# Altium footprint library MotorPID.PcbLib: 8 footprints
Each footprint in its own frame and in the unit in brackets; x right, y up, seen from the top. Pads: shape width x height; smd on the part's side, far side on the other; paste and mask are expansions set on the pad; w line width, h text height; cw(c..) or ccw(c..) is an arc to the next point about the centre after c.
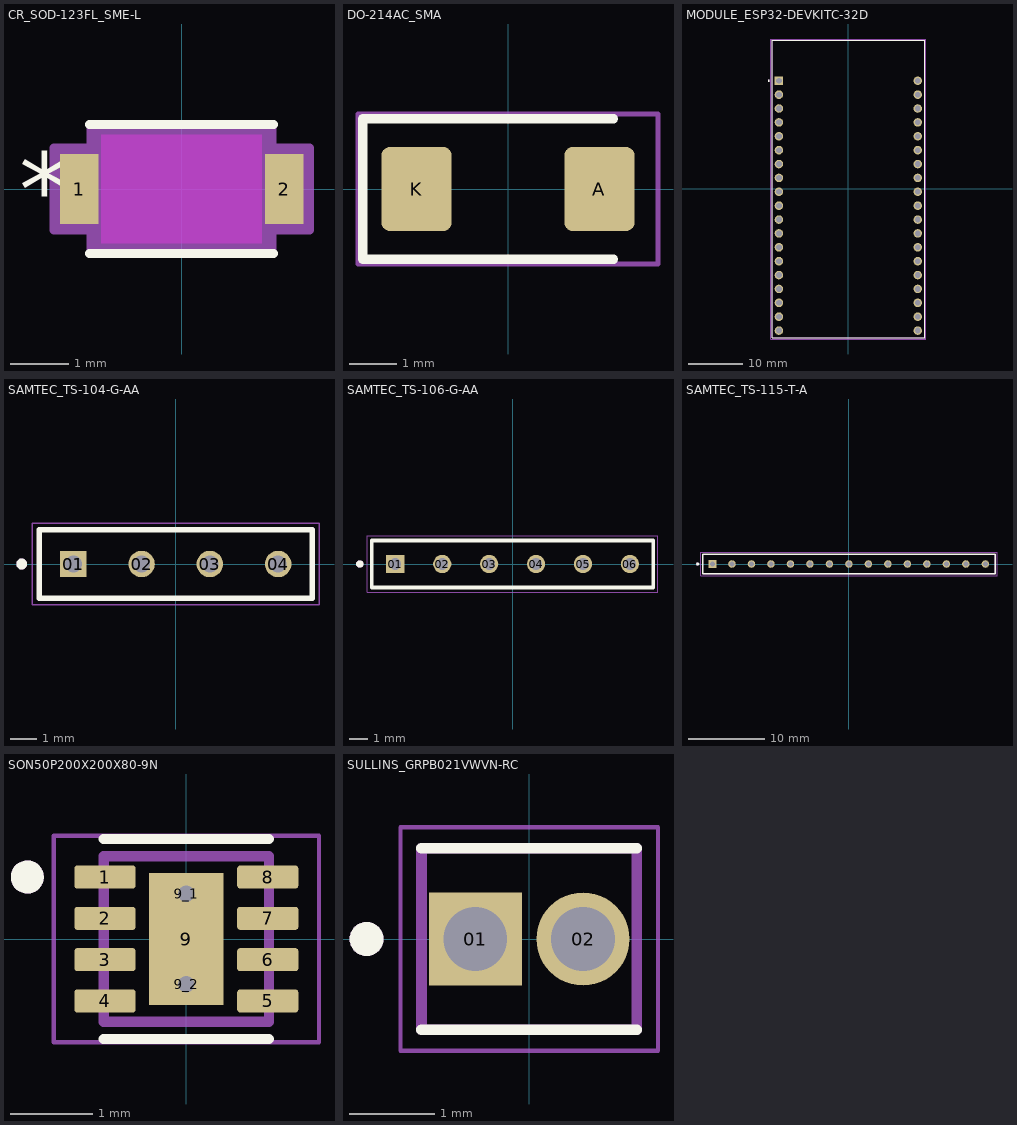
[diagram p0: the footprints below, top view; thin cyan lines are the x and y axes]

## CR_SOD-123FL_SME-L [mil]
pads (2):
  rect 26x47 smd paste+0 mask+0: 1(-69,0) 2(69,0)
Top Overlay:
  lines w6: -62,-43.5 62,-43.5 ; -62,43.5 62,43.5
  text "*" at -109.5,-25 h50
Keep-Out Layer:
  region: -54,-36.5 -54,36.5 54,36.5 54,-36.5
Mechanical 13:
  lines w1: -57,-19.25 -37.75,-38.5 ; -57,19.25 -37.75,38.5 ; -76,-23.5 -76,23.5 -57,23.5 -57,-23.5 -76,-23.5 ; -57,-38.5 57,-38.5 57,38.5 -57,38.5 -57,-38.5 ; 57,-23.5 57,23.5 76,23.5 76,-23.5 57,-23.5
  text "*" at -59.5,-25 h50
Mechanical 15:
  region: -61,-27.5 -86,-27.5 -86,27.5 -61,27.5 -61,42.5 61,42.5 61,27.5 86,27.5 86,-27.5 61,-27.5 61,-42.5 -61,-42.5
  lines w6: -86,-27.5 -86,27.5 -61,27.5 -61,42.5 61,42.5 61,27.5 86,27.5 86,-27.5 61,-27.5 61,-42.5 -61,-42.5 -61,-27.5 -86,-27.5
3D body "CR_SOD-123FL_SME.step": height 55.12, standoff 0, extent -75.98,-38.5 75.98,38.5

## DO-214AC_SMA [mm]
pads (2):
  rrect25% 1.5x1.8 smd: A(1.95,0) K(-1.95,0)
Top Overlay:
  lines w0.2: 2.25,-1.5 -3.1,-1.5 -3.1,1.5 2.25,1.5
Mechanical 15:
  lines w0.1: -3.2,-1.6 3.2,-1.6 3.2,1.6 -3.2,1.6 -3.2,-1.6
3D body "M4.step": height 2.2, standoff 0, extent -2.5,-1.35 2.5,1.35

## MODULE_ESP32-DEVKITC-32D [mm]
pads (38):
  rect 1.56x1.56 / inner round 1.56 / far side rect 1.56x1.56 hole 1.04: J2-1(-12.7,19.76)
  round 1.56 hole 1.04: J2-2(-12.7,17.22) J2-3(-12.7,14.68) J2-4(-12.7,12.14) J2-5(-12.7,9.6) J2-6(-12.7,7.06) J2-7(-12.7,4.52) J2-8(-12.7,1.98) J2-9(-12.7,-0.56) J2-10(-12.7,-3.1) J2-11(-12.7,-5.64) J2-12(-12.7,-8.18) J2-13(-12.7,-10.72) J2-14(-12.7,-13.26) J2-15(-12.7,-15.8) J2-16(-12.7,-18.34) J2-17(-12.7,-20.88) J2-18(-12.7,-23.42) J2-19(-12.7,-25.96) J3-1(12.7,19.76) J3-2(12.7,17.22) J3-3(12.7,14.68) J3-4(12.7,12.14) J3-5(12.7,9.6) J3-6(12.7,7.06) J3-7(12.7,4.52) J3-8(12.7,1.98) J3-9(12.7,-0.56) J3-10(12.7,-3.1) J3-11(12.7,-5.64) J3-12(12.7,-8.18) J3-13(12.7,-10.72) J3-14(12.7,-13.26) J3-15(12.7,-15.8) J3-16(12.7,-18.34) J3-17(12.7,-20.88) J3-18(12.7,-23.42) J3-19(12.7,-25.96)
Top Overlay:
  circle w0.2: c-14.6,19.76 r0.1
  lines w0.127: -13.95,-27.25 13.95,-27.25 13.95,27.15 -13.95,27.15 -13.95,-27.25
Mechanical 13:
  circle w0.2: c-14.6,19.76 r0.1
  lines w0.127: -13.95,-27.25 -13.95,27.15 13.95,27.15 13.95,-27.25 -13.95,-27.25
Mechanical 15:
  lines w0.05: -14.2,-27.5 -14.2,27.4 14.2,27.4 14.2,-27.5 -14.2,-27.5
3D body "step_temp.STEP": height 6.69, standoff -6, extent -13.97,-27.9 13.97,27.2

## SAMTEC_TS-104-G-AA [mm]
pads (4):
  rect 0.985x0.985 hole 0.635: 01(-3.81,0)
  round 0.985 hole 0.635: 02(-1.27,0) 03(1.27,0) 04(3.81,0)
Top Overlay:
  circle w0.2: c-5.73,0 r0.1
  lines w0.2: -5.08,-1.27 5.08,-1.27 5.08,1.27 -5.08,1.27 -5.08,-1.27
Mechanical 13:
  circle w0.2: c-5.73,0 r0.1
  lines w0.1: -5.08,-1.27 -5.08,1.27 ; -5.08,-1.27 5.08,-1.27 ; -5.08,-1.27 -5.08,1.27 ; -5.08,1.27 5.08,1.27 ; -5.08,1.27 5.08,1.27 ; 5.08,-1.27 5.08,1.27 ; 5.08,-1.27 5.08,1.27
Mechanical 15:
  lines w0.05: -5.33,-1.52 5.33,-1.52 5.33,1.52 -5.33,1.52 -5.33,-1.52

## SAMTEC_TS-106-G-AA [mm]
pads (6):
  rect 0.985x0.985 / inner round 0.985 / far side rect 0.985x0.985 hole 0.635: 01(-6.35,0)
  round 0.985 hole 0.635: 02(-3.81,0) 03(-1.27,0) 04(1.27,0) 05(3.81,0) 06(6.35,0)
Top Overlay:
  circle w0.2: c-8.27,0 r0.1
  lines w0.2: -7.62,-1.27 7.62,-1.27 7.62,1.27 -7.62,1.27 -7.62,-1.27
Mechanical 13:
  circle w0.2: c-8.27,0 r0.1
  lines w0.1: -7.62,-1.27 -7.62,1.27 ; -7.62,-1.27 7.62,-1.27 ; -7.62,-1.27 -7.62,1.27 ; -7.62,1.27 7.62,1.27 ; -7.62,1.27 7.62,1.27 ; 7.62,-1.27 7.62,1.27 ; 7.62,-1.27 7.62,1.27
Mechanical 15:
  lines w0.05: -7.87,-1.52 7.87,-1.52 7.87,1.52 -7.87,1.52 -7.87,-1.52

## SAMTEC_TS-115-T-A [mm]
pads (15):
  rect 0.985x0.985 / inner round 0.985 / far side rect 0.985x0.985 hole 0.635: 01(-17.78,0)
  round 0.985 hole 0.635: 02(-15.24,0) 03(-12.7,0) 04(-10.16,0) 05(-7.62,0) 06(-5.08,0) 07(-2.54,0) 08(0,0) 09(2.54,0) 10(5.08,0) 11(7.62,0) 12(10.16,0) 13(12.7,0) 14(15.24,0) 15(17.78,0)
Top Overlay:
  circle w0.2: c-19.7,0 r0.1
  lines w0.2: -19.05,-1.27 -19.05,1.27 19.05,1.27 19.05,-1.27 -19.05,-1.27
Mechanical 13:
  circle w0.2: c-19.7,0 r0.1
  lines w0.1: -19.05,-1.27 -19.05,1.27 ; -19.05,-1.27 19.05,-1.27 ; -19.05,-1.27 -19.05,1.27 ; -19.05,1.27 19.05,1.27 ; -19.05,1.27 19.05,1.27 ; 19.05,-1.27 19.05,1.27 ; 19.05,-1.27 19.05,1.27
Mechanical 15:
  lines w0.05: -19.3,-1.52 -19.3,1.52 19.3,1.52 19.3,-1.52 -19.3,-1.52

## SON50P200X200X80-9N [mm]
pads (11):
  rrect25% 0.74x0.28 smd: 1(-0.985,0.75) 2(-0.985,0.25) 3(-0.985,-0.25) 4(-0.985,-0.75) 5(0.985,-0.75) 6(0.985,-0.25) 7(0.985,0.25) 8(0.985,0.75)
  rect 0.9x1.6 smd paste-2: 9(0,0)
  round 0.4 hole 0.2 mask+0: 9_1(0,0.55) 9_2(0,-0.55)
Top Overlay:
  circle w0.2: c-1.925,0.75 r0.1
  lines w0.127: -1,-1.21 1,-1.21 ; -1,1.21 1,1.21
Top Paste:
  region: 0.28,-0.51 -0.28,-0.51 -0.28,0.51 0.28,0.51
Mechanical 13:
  circle w0.2: c-1.925,0.75 r0.1
  lines w0.127: -1,-1 -1,1 1,1 1,-1 -1,-1
Mechanical 15:
  lines w0.05: -1.605,-1.25 -1.605,1.25 1.605,1.25 1.605,-1.25 -1.605,-1.25
3D body "step_temp.STEP": height 0.8, standoff 0, extent -1,-1 1,1

## SULLINS_GRPB021VWVN-RC [mm]
pads (2):
  rect 1.1x1.1 / inner round 1.1 / far side rect 1.1x1.1 hole 0.75: 01(-0.635,0)
  round 1.1 hole 0.75: 02(0.635,0)
Top Overlay:
  circle w0.2: c-1.92,0 r0.1
  lines w0.127: -1.27,-1.07 1.27,-1.07 ; -1.27,1.07 1.27,1.07
Mechanical 13:
  circle w0.2: c-1.92,0 r0.1
  lines w0.127: -1.27,-1.07 -1.27,1.07 1.27,1.07 1.27,-1.07 -1.27,-1.07
Mechanical 15:
  lines w0.05: -1.52,-1.32 -1.52,1.32 1.52,1.32 1.52,-1.32 -1.52,-1.32
3D body "GRPB021VWVN-RC.step": height 4.04, standoff -2.26, extent -1.27,-1.067 1.27,1.067